# Altium schematic symbol library TE 284392-2.Schlib: 1 symbol
Pins are listed as number, name and electrical type; pins without a type are passive.

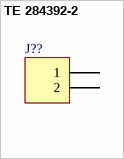
[diagram p0: symbol TE 284392-2]

## TE 284392-2
designator J??
PCB Terminal Blocks, Header, Wire-to-Board, 2 Position, 3.81mm; Manufacturer: TE; Part Number: 284392-2; Value: 284392-2; TYPE: Connectors; ComponentLink1Description: Datasheet link; Mount Type: TRH; RoHS: Y; Supplier 1: Mouser; Supplier Part Number 1: 571-284392-2; Technology: Terminal blocks
footprint 284392-2 (PCB Terminal Blocks, Header, Wire-to-Board, 2 Positions, 3.81mm)
pins: 1, 2